# Altium schematic symbol library voltage_regulators.SchLib: 37 symbols
Pins are listed as number, name and electrical type; pins without a type are passive.

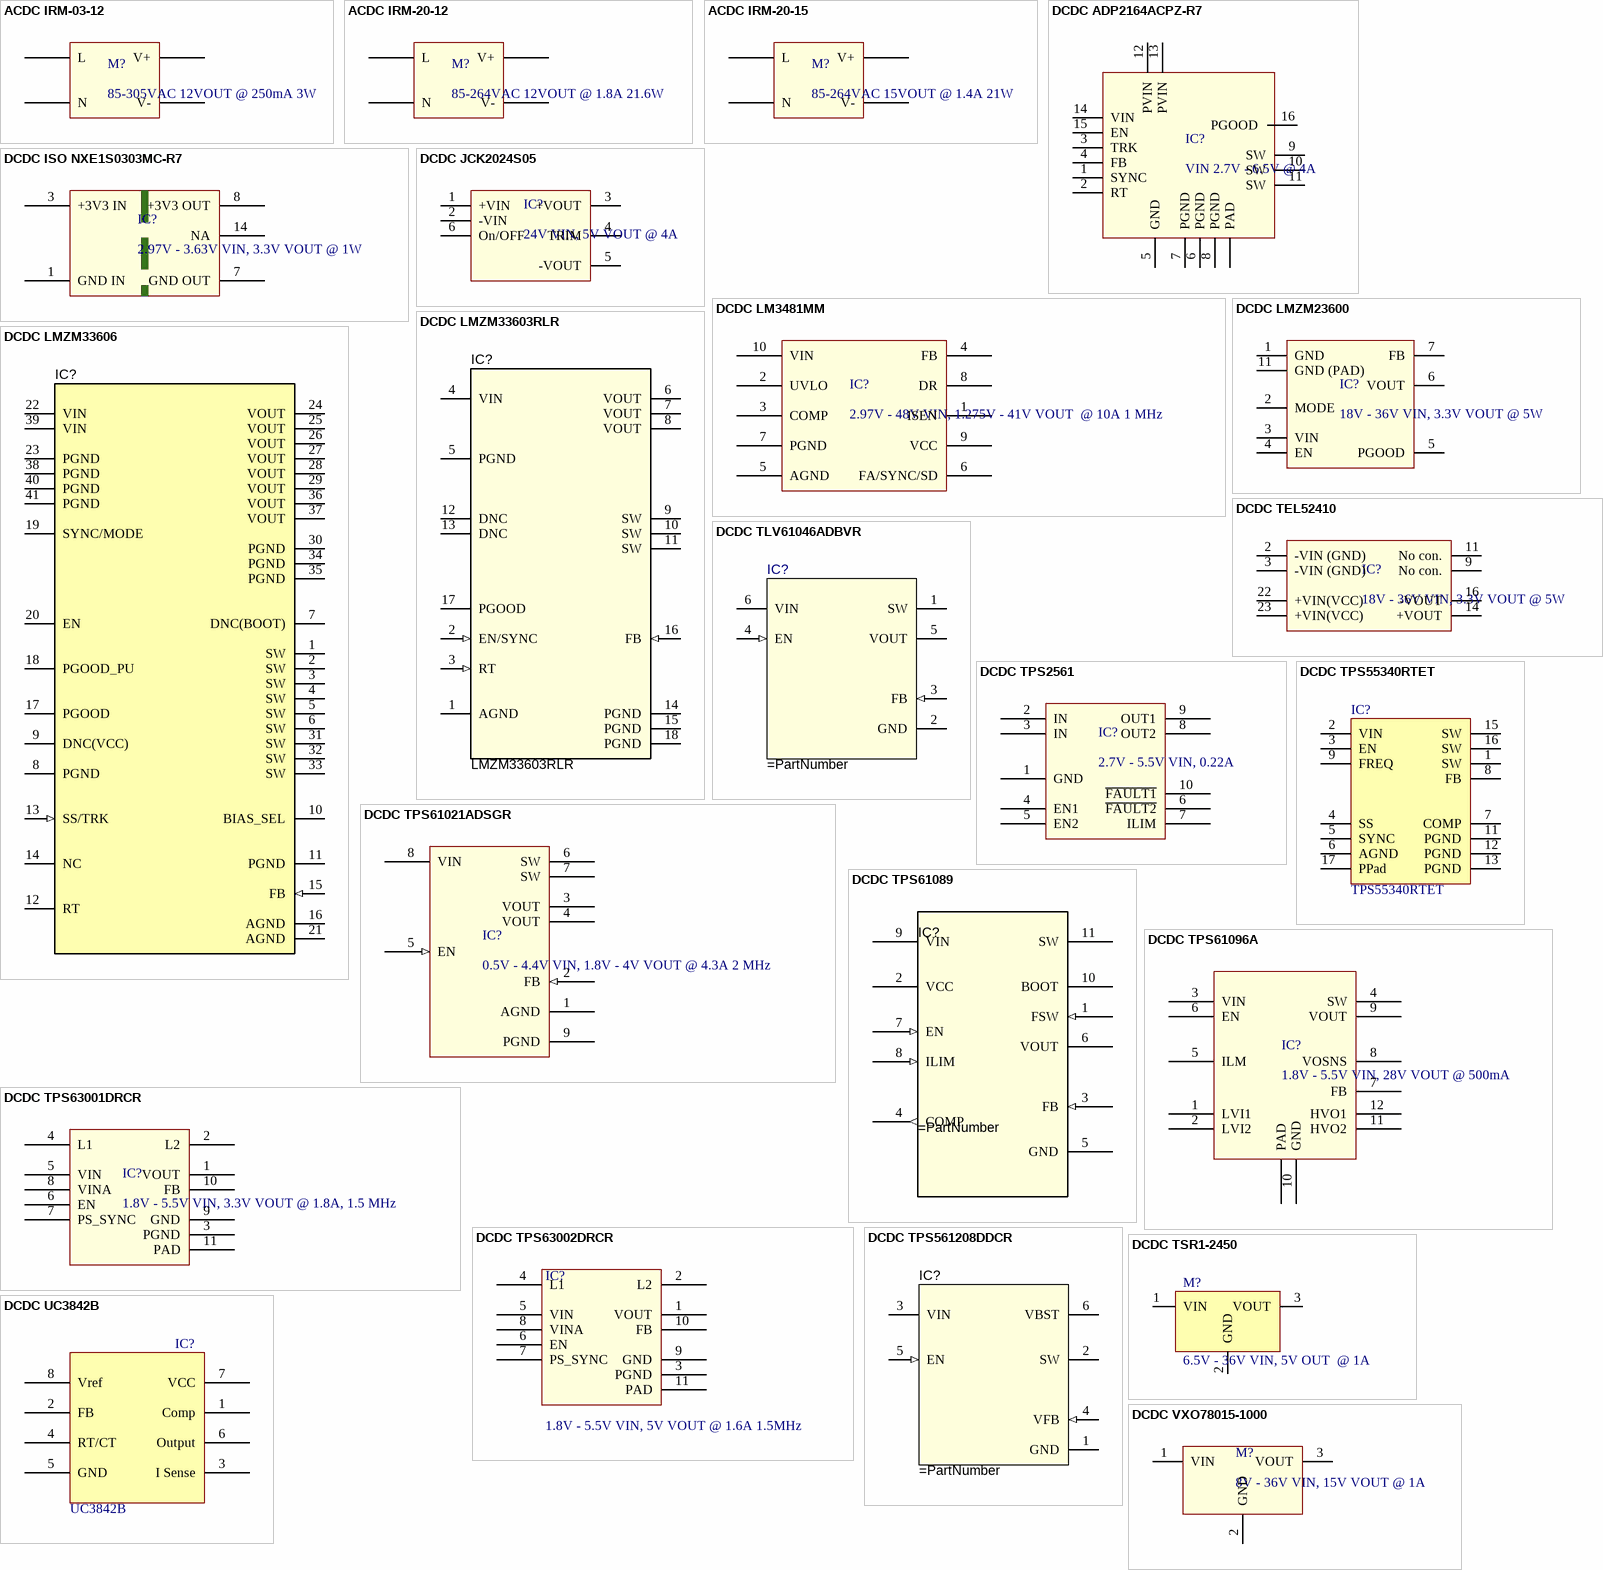
[diagram p0: symbols ACDC IRM-03-12 to DCDC VXO78015-1000]

## ACDC IRM-03-12
designator M?, comment 85-305VAC 12VOUT @ 250mA 3W
Power Supply: DC-DC;  PCB Mnt;  3W,  12V@167mA;  IRM-03 Series; Manufacturer: Mean Well USA; Manufacturer Part Number: IRM-03-12; Created by: Nils Minor; Value: 85-305VAC 12VOUT @ 250mA 3W
footprint IRM-03-12
pins: L, N, V+, V-

## ACDC IRM-20-12
designator M?, comment 85-264VAC 12VOUT @ 1.8A 21.6W
Power Supply; AC-DC; 12V@1.8A; 115-264V In; Encapsulated; PCB, Thru-Hole; IRM Series; Manufacturer: Mean Well USA; Manufacturer Part Number: IRM-20-12; Created by: Nils Minor; Value: 85-264VAC 12VOUT @ 1.8A 21.6W
footprint Model Name (Model Description)
footprint Model Name (Model Description)
footprint IRM-20 (20W Single Output Encapsulated Type)
pins: L, N, V+, V-

## ACDC IRM-20-15
designator M?, comment 85-264VAC 15VOUT @ 1.4A 21W
Power Supply; AC-DC; 15V@1.4A; 115-264V In; Encapsulated; PCB, Thru-Hole; IRM Series; Manufacturer: Mean Well; Manufacturer Part Number: IRM-20-15; Created by: Nils Minor; Value: 85-264VAC 15VOUT @ 1.4A 21W
footprint Model Name (Model Description)
footprint Model Name (Model Description)
footprint IRM-20 (20W Single Output Encapsulated Type)
pins: L, N, V+, V-

## DCDC ADP2164ACPZ-R7
designator IC?, comment VIN 2.7V - 6.5V @ 4A
Buck Schaltregler-IC Positiv Einstellbar 0,6 V 1 Ausgang 4 A 16-WQFN mit freiliegendem Pad, CSP; Manufacturer: Analog Devices; Manufacturer Part Number: ADP2164ACPZ-R7; Created by: Nils Minor; Value: VIN 2.7V - 6.5V @ 4A
footprint QFN16_4X4_PAD2_1X2_1
pins: 1 SYNC, 2 RT, 3 TRK, 4 FB, 5 GND, 6 PGND, 7 PGND, 8 PGND, 9 SW, 10 SW, 11 SW, 12 PVIN, 13 PVIN, 14 VIN, 15 EN, 16 PGOOD, PAD

## DCDC ISO NXE1S0303MC-R7
designator IC?, comment 2.97V - 3.63V VIN, 3.3V VOUT @ 1W
MURATA POWER SOLUTIONS         NXE1S0303MC-R7             Isolated Board Mount DC/DC Converter, Low Profile, Fixed, 1 Output, 2.97 V, 3.63 V, 1 W, 3.3 V; Manufacturer: Murata; Manufacturer Part Number: NXE1S0303MC-R7; Created by: Nils Minor; Value: 2.97V - 3.63V VIN, 3.3V VOUT @ 1W
footprint NXE1
pins: 1 GND IN, 3 +3V3 IN, 7 GND OUT, 8 +3V3 OUT, 14 NA

## DCDC JCK2024S05
designator IC?, comment 24V VIN, 5V VOUT @ 4A
JCK20 DC/DC-Wandler 24Volt auf 5 volt, 4 A; Manufacturer: XP Power; Manufacturer Part Number: JCK2024S05; Created by: Nils Minor; Value: 24V VIN, 5V VOUT @ 4A
footprint JCK2024S05 (24 V DC/DC zu 5V 4A)
pins: 1 +VIN, 2 -VIN, 3 +VOUT, 4 TRIM, 5 -VOUT, 6 On/OFF

## DCDC LM3481MM
designator IC?, comment 2.97V - 48V VIN, 1.275V - 41V VOUT  @ 10A 1 MHz
N-CHANNEL CONTROLLER, 1MHZ, VSSOP-10; Manufacturer: Texas Instruments (TI); Manufacturer Part Number: LM3481MM/NOPB; Created by: Nils Minor; Value: 2.97V - 48V VIN, 1.275V - 41V VOUT  @ 10A 1 MHz
footprint MSOP-10
pins: 1 ISEN, 2 UVLO, 3 COMP, 4 FB, 5 AGND, 6 FA/SYNC/SD, 7 PGND, 8 DR, 9 VCC, 10 VIN

## DCDC LMZM23600
designator IC?, comment 18V - 36V VIN, 3.3V VOUT @ 5W
NICHT ISOLIERTE DC-DC-WANDLER 36-V, 0.5-A Step-Down DC/DC Power Module in 3.8-mm x 3-mm Package 10-uSiP -40 to 125; Manufacturer: Texas Instruments; Manufacturer Part Number: LMZM23600V3SILT; Value: 4V - 36V VIN, 3.3V VOUT @ 500mA; Created by: Nils Minor
footprint SIL0010A (1.5mm)
pins: 1 GND, 2 MODE, 3 VIN, 4 EN, 5 PGOOD, 6 VOUT, 7 FB, 11 GND (PAD)

## DCDC LMZM33603RLR
designator IC?, comment LMZM33603RLR
4.0V-36V Input, 1.0V-18V Output, 3-A SIMPLE SWITCHER Power Module, RLR0018A (B2QFN-18); Manufacturer: Texas Instruments; Created by: Nils Minor; Manufacturer Part Number: LMZM33603RLR
footprint RLR0018A
pins: 1 AGND (power), 2 EN/SYNC (in), 3 RT (in), 4 VIN (power), 5 PGND (power), 6 VOUT (power), 7 VOUT (power), 8 VOUT (power), 9 SW (power), 10 SW (power), 11 SW (power), 12 DNC, 13 DNC, 14 PGND (power), 15 PGND (power), 16 FB (in), 17 PGOOD, 18 PGND (power)

## DCDC LMZM33606
designator IC?, comment LMZM33606RLXR  (value not drawn)
Synchronous step down converter with PWM, MOSFETs, inductor, compensation and control circuitry integrated into a low-profile, RLX0041A (B3QFN-41); Manufacturer: Texas Instruments; Manufacturer Part Number: LMZM33603RLR; Created by: Nils Minor
footprint RLX0041A (B3QFN-41)
pins: 1 SW (power), 2 SW (power), 3 SW (power), 4 SW (power), 5 SW (power), 6 SW (power), 7 DNC(BOOT), 8 PGND (power), 9 DNC(VCC) (power), 10 BIAS_SEL (power), 11 PGND (power), 12 RT, 13 SS/TRK (in), 14 NC, 15 FB (in), 16 AGND (power), 17 PGOOD (oc), 18 PGOOD_PU (power), 19 SYNC/MODE (power), 20 EN (power), 21 AGND (power), 22 VIN (power), 23 PGND (power), 24 VOUT (power), 25 VOUT (power), 26 VOUT (power), 27 VOUT (power), 28 VOUT (power), 29 VOUT (power), 30 PGND (power), 31 SW (power), 32 SW (power), 33 SW (power), 34 PGND (power), 35 PGND (power), 36 VOUT (power), 37 VOUT (power), 38 PGND (power), 39 VIN (power), 40 PGND (power), 41 PGND (power)

## DCDC TEL52410
designator IC?, comment 18V - 36V VIN, 3.3V VOUT @ 5W
DC/DC converter 18. . .36 VDC 3.3 VDC 5 W, TEL 5-2410, Traco Power; Manufacturer: Traco Power; Manufacturer Part Number: TEL5-2410; Created by: Nils Minor; Value: 18V - 36V VIN, 3.3V VOUT @ 5W
footprint Traco DC/DC TEL52410 (DC/DC Wandler von 24 auf 3, bei Imax 1,2A)
pins: 2 -VIN (GND), 3 -VIN (GND), 9 No con., 11 No con., 14 +VOUT, 16 -VOUT, 22 +VIN(VCC), 23 +VIN(VCC)

## DCDC TLV61046ADBVR
designator IC?
28-V Output Voltage Boost Converter with Power Diode and Isolation Switch, DBV0006A (SOT-6); Manufacturer: Texas Instruments; Manufacturer Part Number: TLV61046ADBVR; Created by: Nils Minor
footprint SOT236
pins: 1 SW (power) "Connect the inductor and the Schottky diode to this pin.", 2 GND (power) "Ground", 3 FB (in) "This is the feedback pin of the device. Connect this pin to the external voltage divider to program the desired output voltage.", 4 EN (in) "This is the enable pin of the device.", 5 VOUT (power), 6 VIN (power) "Supply voltage pin"

## DCDC TPS2561
designator IC?, comment 2.7V - 5.5V VIN, 0.22A
DCDC IC - Leistungsverteiler AC 0.22A,2.7-5.5V Sig Pwr Dist Sw IC; Manufacturer: Texas Instruments (TI); Manufacturer Part Number: TPS2020IDRQ1; Created by: Nils Minor; Value: 2.7V - 5.5V VIN, 0.22A
footprint PVSON-10
pins: 1 GND, 2 IN, 3 IN, 4 EN1, 5 EN2, 6 ~{FAULT2}, 7 ILIM, 8 OUT2, 9 OUT1, 10 ~{FAULT1}

## DCDC TPS55340RTET
designator IC?, comment TPS55340RTET
Schaltspannungsregler 5A 40V Wide In Range DC-DC Converter; Manufacturer: Texas Instruments; Value: 2.9V - 38V VIN, 6.6A; Created by: Nils Minor; Manufacturer Part Number: TPS55340RTET
footprint QFN50P300X300X80-16N (QFN, 16-Leads, Body 3,2x3,2mm (max), Pitch 0,50mm, IPC Medium Density)
pins: 1 SW, 2 VIN, 3 EN, 4 SS, 5 SYNC, 6 AGND, 7 COMP, 8 FB, 9 FREQ, 11 PGND, 12 PGND, 13 PGND, 15 SW, 16 SW, 17 PPad

## DCDC TPS61021ADSGR
designator IC?, comment 0.5V - 4.4V VIN, 1.8V - 4V VOUT @ 4.3A 2 MHz
DCDC 91% Efficiency at VIN = 2.4 V, VOUT = 3.3 V and IOUT = 1.5 A; Manufacturer: Texas Instruments; Manufacturer Part Number: TPS61021ADSGR; Created by: Nils Minor; Value: 0.5V - 4.4V VIN, 1.8V - 4V VOUT @ 4.3A 2 MHz
footprint DSG0008A
pins: 1 AGND (power), 2 FB (in), 3 VOUT (power), 4 VOUT (power), 5 EN (in), 6 SW (power), 7 SW (power), 8 VIN (power), 9 PGND (power)

## DCDC TPS61089
designator IC?
2.7V - 12V VIN, 12.6V 7A; Manufacturer: Texas Instruments; Manufacturer Part Number: TPS61089; Created by: Nils Minor; Value: 2.7V - 12V VIN, 12.6V 7A
footprint RNR0011A (VQFN)
pins: 1 FSW (in), 2 VCC (power), 3 FB (in), 4 COMP (out), 5 GND (power), 6 VOUT (power), 7 EN (in), 8 ILIM (in), 9 VIN (power), 10 BOOT (power), 11 SW (power)

## DCDC TPS61096A
designator IC?, comment 1.8V - 5.5V VIN, 28V VOUT @ 500mA
Schaltspannungsregler 28-V Output Voltage Boost Converter with 1-uA Quiescent Current 12-WSON -40 to 85; Manufacturer: Texas Instruments (TI); Manufacturer Part Number: TPS61096ADSSR; Created by: Nils Minor
footprint WSON 12
pins: 1 LVI1, 2 LVI2, 3 VIN, 4 SW, 5 ILM, 6 EN, 7 FB, 8 VOSNS, 9 VOUT, 10 GND, 11 HVO2, 12 HVO1, PAD

## DCDC TPS63001DRCR
designator IC?, comment 1.8V - 5.5V VIN, 3.3V VOUT @ 1.8A, 1.5 MHz
IC REG BUCK BST 3.3V 1.6A 10SON; Manufacturer: Texas Instruments (TI); Manufacturer Part Number: TPS63001DRCR; Created by: Nils Minor; Value: 1.8V - 5.5V VIN, 3.3V VOUT @ 1.8A, 1.5 MHz
footprint TPS63001DRCR
pins: 1 VOUT, 2 L2, 3 PGND, 4 L1, 5 VIN, 6 EN, 7 PS_SYNC, 8 VINA, 9 GND, 10 FB, 11 PAD

## DCDC TPS63002DRCR
designator IC?, comment 1.8V - 5.5V VIN, 5V VOUT @ 1.6A 1.5MHz
IC REG BUCK BST 5V 1.6A 10SON; Manufacturer: Texas Instruments; Manufacturer Part Number: TPS63002DRCR; Created by: Nils Minor; Value: 1.8V - 5.5V VIN, 5V VOUT @ 1.6A 1.5MHz
footprint TPS63001DRCR
pins: 1 VOUT, 2 L2, 3 PGND, 4 L1, 5 VIN, 6 EN, 7 PS_SYNC, 8 VINA, 9 GND, 10 FB, 11 PAD

## DCDC TPS561208DDCR
designator IC?
4.5-V to 17-V Input, 2-A Synchronous Step-Down Voltage Regulator, DDC0006A (SOT-23-T-6); Manufacturer: Texas Instruments; Manufacturer Part Number: TPS561208DDCT; Value: 4.5V - 17V VIN, Adj VOUT @ 2A; Created by: Nils Minor
footprint DDC0006A_N
pins: 1 GND (power), 2 SW (power), 3 VIN (power), 4 VFB (in), 5 EN (in), 6 VBST (power)

## DCDC TSR1-2450
designator M?, comment 6.5V - 36V VIN, 5V OUT  @ 1A
1A DC-DC Wandler 24V-5V, Fa. Traco; Manufacturer: Traco Power; Manufacturer Part Number: TSR 1-2450; Created by: Nils Minor; Value: 6.5V - 36V VIN, 5V OUT  @ 1A
footprint TSR1
pins: 1 VIN (power), 2 GND (power), 3 VOUT (power)

## DCDC UC3842B
designator IC?, comment UC3842B
Current Mode Controller (Boost Converter); Manufacturer: ST Microelectronics; Manufacturer Part Number: UC3842BD1013TR; Created by: Nils Minor
footprint SO-8
footprint SOIC127P600X175-8N (SOIC, 8-Leads, Body 4,90x3,90mm, Pitch 1,27mm, IPC Medium Density)
pins: 1 Comp, 2 FB, 3 I Sense, 4 RT/CT, 5 GND, 6 Output, 7 VCC, 8 Vref

## DCDC VXO78015-1000
designator M?, comment 8V - 36V VIN, 15V VOUT @ 1A
Ersatz für Linearregler DC/DC-Wandler 1 Ausgang 15 V 1 A 8 V 36 V Eingangsbereich; Manufacturer: CUI; Manufacturer Part Number: VXO78015-1000; Created by: Nils Minor; Value: 8V - 36V VIN, 15V VOUT @ 1A
footprint VXO78
pins: 1 VIN, 2 GND, 3 VOUT

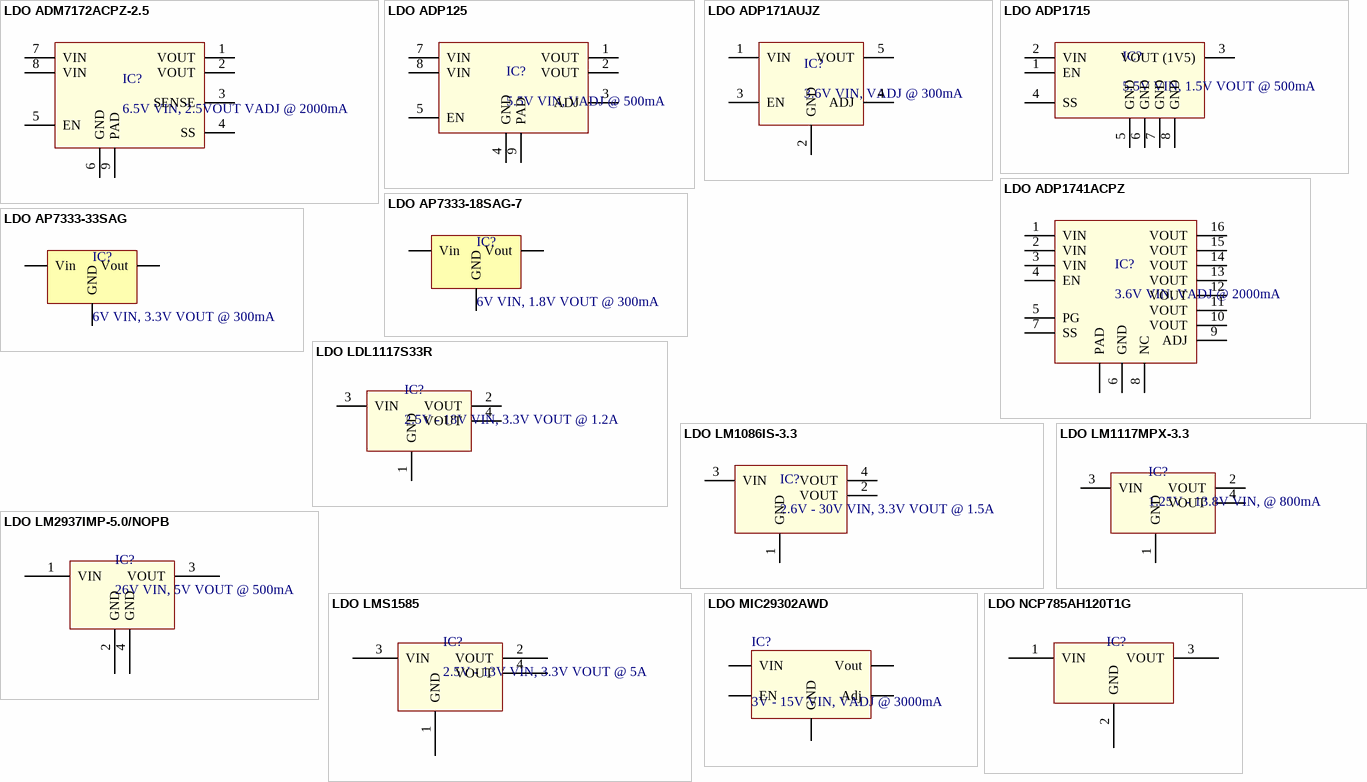
[diagram p1: symbols LDO ADM7172ACPZ-2.5 to LDO NCP785AH120T1G]

## LDO ADM7172ACPZ-2.5
designator IC?, comment 6.5V VIN, 2.5VOUT VADJ @ 2000mA
LDO Spannungs-Regulator CMOS LDO 6.5V 2A 2.5Vout; Manufacturer: Analog Devices; Manufacturer Part Number: ADM7172ACPZ-2.5-R7; Created by: Nils Minor; Value: 6.5V VIN, 2.5VOUT VADJ @ 2000mA
footprint LFCSP_WD 8 3x3mm
pins: 1 VOUT, 2 VOUT, 3 SENSE, 4 SS, 5 EN, 6 GND, 7 VIN, 8 VIN, 9 PAD

## LDO ADP125
designator IC?, comment 5.5V VIN, VADJ @ 500mA
Lineare Spannungsregler 5.5V Input 500mA Low Quiescent Crnt CMOS MSOP-8; Manufacturer: Analog Devices; Manufacturer Part Number: ADP125ARHZ-R7; Created by: Nils Minor; Value: 5.5V VIN, VADJ @ 500mA
footprint 8 - LEAD MSOP PAD (ADP1715ARMZ-1.5-R7)
pins: 1 VOUT, 2 VOUT, 3 ADJ, 4 GND, 5 EN, 7 VIN, 8 VIN, 9 PAD

## LDO ADP171AUJZ
designator IC?, comment 3.6V VIN, VADJ @ 300mA
Linear Voltage Regulator IC Positive Adjustable 1 Output 0.8 V ~ 3 V 300mA TSOT-5; Manufacturer: Analog Devices; Manufacturer Part Number: ADP171AUJZ-R7; Created by: Nils Minor; Value: 3.6V VIN, VADJ @ 300mA
footprint SOT235
pins: 1 VIN, 2 GND, 3 EN, 4 ADJ, 5 VOUT

## LDO ADP1715
designator IC?, comment 5.5V VIN, 1.5V VOUT @ 500mA
Linear Voltage Regulator IC  Input Voltage 2.5V - 5.5V.Fixed 1 Output 1.5V 500mA 8-MSOP; Manufacturer: Analog Devices; Manufacturer Part Number: ADP1715ARMZ-1.5-R7; Created by: Nils Minor; Value: 5.5V VIN, 1.5V VOUT @ 500mA
footprint 8 - LEAD MSOP (ADP1715ARMZ-1.5-R7)
pins: 1 EN, 2 VIN, 3 VOUT (1V5), 4 SS, 5 GND, 6 GND, 7 GND, 8 GND

## LDO ADP1741ACPZ
designator IC?, comment 3.6V VIN, VADJ @ 2000mA
Linear Voltage Regulator IC Positive Adjustable 1 Output 0.75 V ~ 3 V 2A 16-LFCSP-WQ (4x4); Manufacturer: Analog Devices; Manufacturer Part Number: ADP1741ACPZ-R7; Created by: Nils Minor; Value: 3.6V VIN, VADJ @ 2000mA
footprint QFN16_4X4_PAD2_1X2_1
pins: 1 VIN, 2 VIN, 3 VIN, 4 EN, 5 PG, 6 GND, 7 SS, 8 NC, 9 ADJ, 10 VOUT, 11 VOUT, 12 VOUT, 13 VOUT, 14 VOUT, 15 VOUT, 16 VOUT, PAD

## LDO AP7333-18SAG-7
designator IC?, comment 6V VIN, 1.8V VOUT @ 300mA
LDO 300mA, Low Quiescent Current, Fast Transient Low Dropout Linear Regulator; Manufacturer: Diodes Incorporated; Manufacturer Part Number: AP7333-18SAG-7; Value: 6V VIN, 1.8V VOUT @ 300mA; Created by: Nils Minor
footprint SOT23-123
pins: 1 Vin, 2 Vout, 3 GND

## LDO AP7333-33SAG
designator IC?, comment 6V VIN, 3.3V VOUT @ 300mA
LDO 300mA, Low Quiescent Current, Fast Transient Low Dropout Linear Regulator; Manufacturer: Diodes Incorporated; Manufacturer Part Number: AP7333-33SAG-7; Value: 6V VIN, 3.3V VOUT @ 300mA; Created by: Nils Minor
footprint SOT23-123
pins: 1 Vin, 2 Vout, 3 GND

## LDO LDL1117S33R
designator IC?, comment 2.5V - 18V VIN, 3.3V VOUT @ 1.2A
LINEAR REG, FIX, 3.3V, 800MA; Manufacturer: ST Microelectronis; Manufacturer Part Number: LDL1117S33R; Created by: Nils Minor; Value: 2.5V - 18V VIN, 3.3V VOUT @ 1.2A
footprint SOT223
pins: 1 GND, 2 VOUT, 3 VIN, 4 VOUT

## LDO LM1086IS-3.3
designator IC?, comment 2.6V - 30V VIN, 3.3V VOUT @ 1.5A
LDO Spannungs-Regulator 1.5A LDO POS REG; Manufacturer: Texas Instruments; Manufacturer Part Number: LM1086IS-3.3/NOPB; Created by: Nils Minor
footprint DDPAK/TO-263
pins: 1 GND, 2 VOUT, 3 VIN, 4 VOUT

## LDO LM1117MPX-3.3
designator IC?, comment 1.25V - 13.8V VIN, @ 800mA
LINEAR REG, FIX, 3.3V, 800MA; Manufacturer: Texas Instruments (TI); Manufacturer Part Number: LM1117MP-3.3/NOPB; Created by: Nils Minor; Value: 1.25V - 13.8V VIN, @ 800mA
footprint SOT-223
pins: 1 GND, 2 VOUT, 3 VIN, 4 VOUT

## LDO LM2937IMP-5.0/NOPB
designator IC?, comment 26V VIN, 5V VOUT @ 500mA
IC, LDO VOLT REG, 5V, 0.5A, SOT-223-3; Manufacturer: TI National Semiconductor; Manufacturer Part Number: LM2937IMP-5.0/NOPB; Created by: Nils Minor; Value: 26V VIN, 5V VOUT @ 500mA
footprint SOT223
pins: 1 VIN, 2 GND, 3 VOUT, 4 GND

## LDO LMS1585
designator IC?, comment 2.5V - 13V VIN, 3.3V VOUT @ 5A
IC REG LDO 3.3V 5A DDPAK; Manufacturer: Texas Instruments (TI); Manufacturer Part Number: LMS1585AISX-3.3/NO; Created by: Nils Minor; Value: 2.5V - 13V VIN, 3.3V VOUT @ 5A
footprint DDPAK/TO-263
pins: 1 GND, 2 VOUT, 3 VIN, 4 VOUT

## LDO MIC29302AWD
designator IC?, comment 3V - 15V VIN, VADJ @ 3000mA
MIC29302A Series 3A ADJ Fast Response LDO Regulator - TO-252-5; Manufacturer: Diodes Incorporated; Manufacturer Part Number: MIC29302AWD-TR; Value: 6V VIN, 1.8V VOUT @ 300mA; Created by: Nils Minor
footprint TO-263-5 (D2-PAK, 6-Pads, Body 8,9x9,9mm (max), IPC Low Density)
pins: 1 EN, 2 VIN, 3 GND, 4 Vout, 5 Adj, 6 GND

## LDO NCP785AH120T1G
designator IC?
ON SEMICONDUCTOR NCP785AH120T1G  Linear Voltage Regulator, Fixed, 55VDC To 450VDC In, 12V And 10mA Out, SOT-89-3; Manufacturer: ON Semiconductor; Manufacturer Part Number: NCP785AH120T1G; Created by: Nils Minor
footprint SOT-89
pins: 1 VIN, 2 GND, 3 VOUT